# Altium integrated library Linear Technology Power Management LDO Linear Regulators.IntLib: 2339 symbols (part 99 of 131)
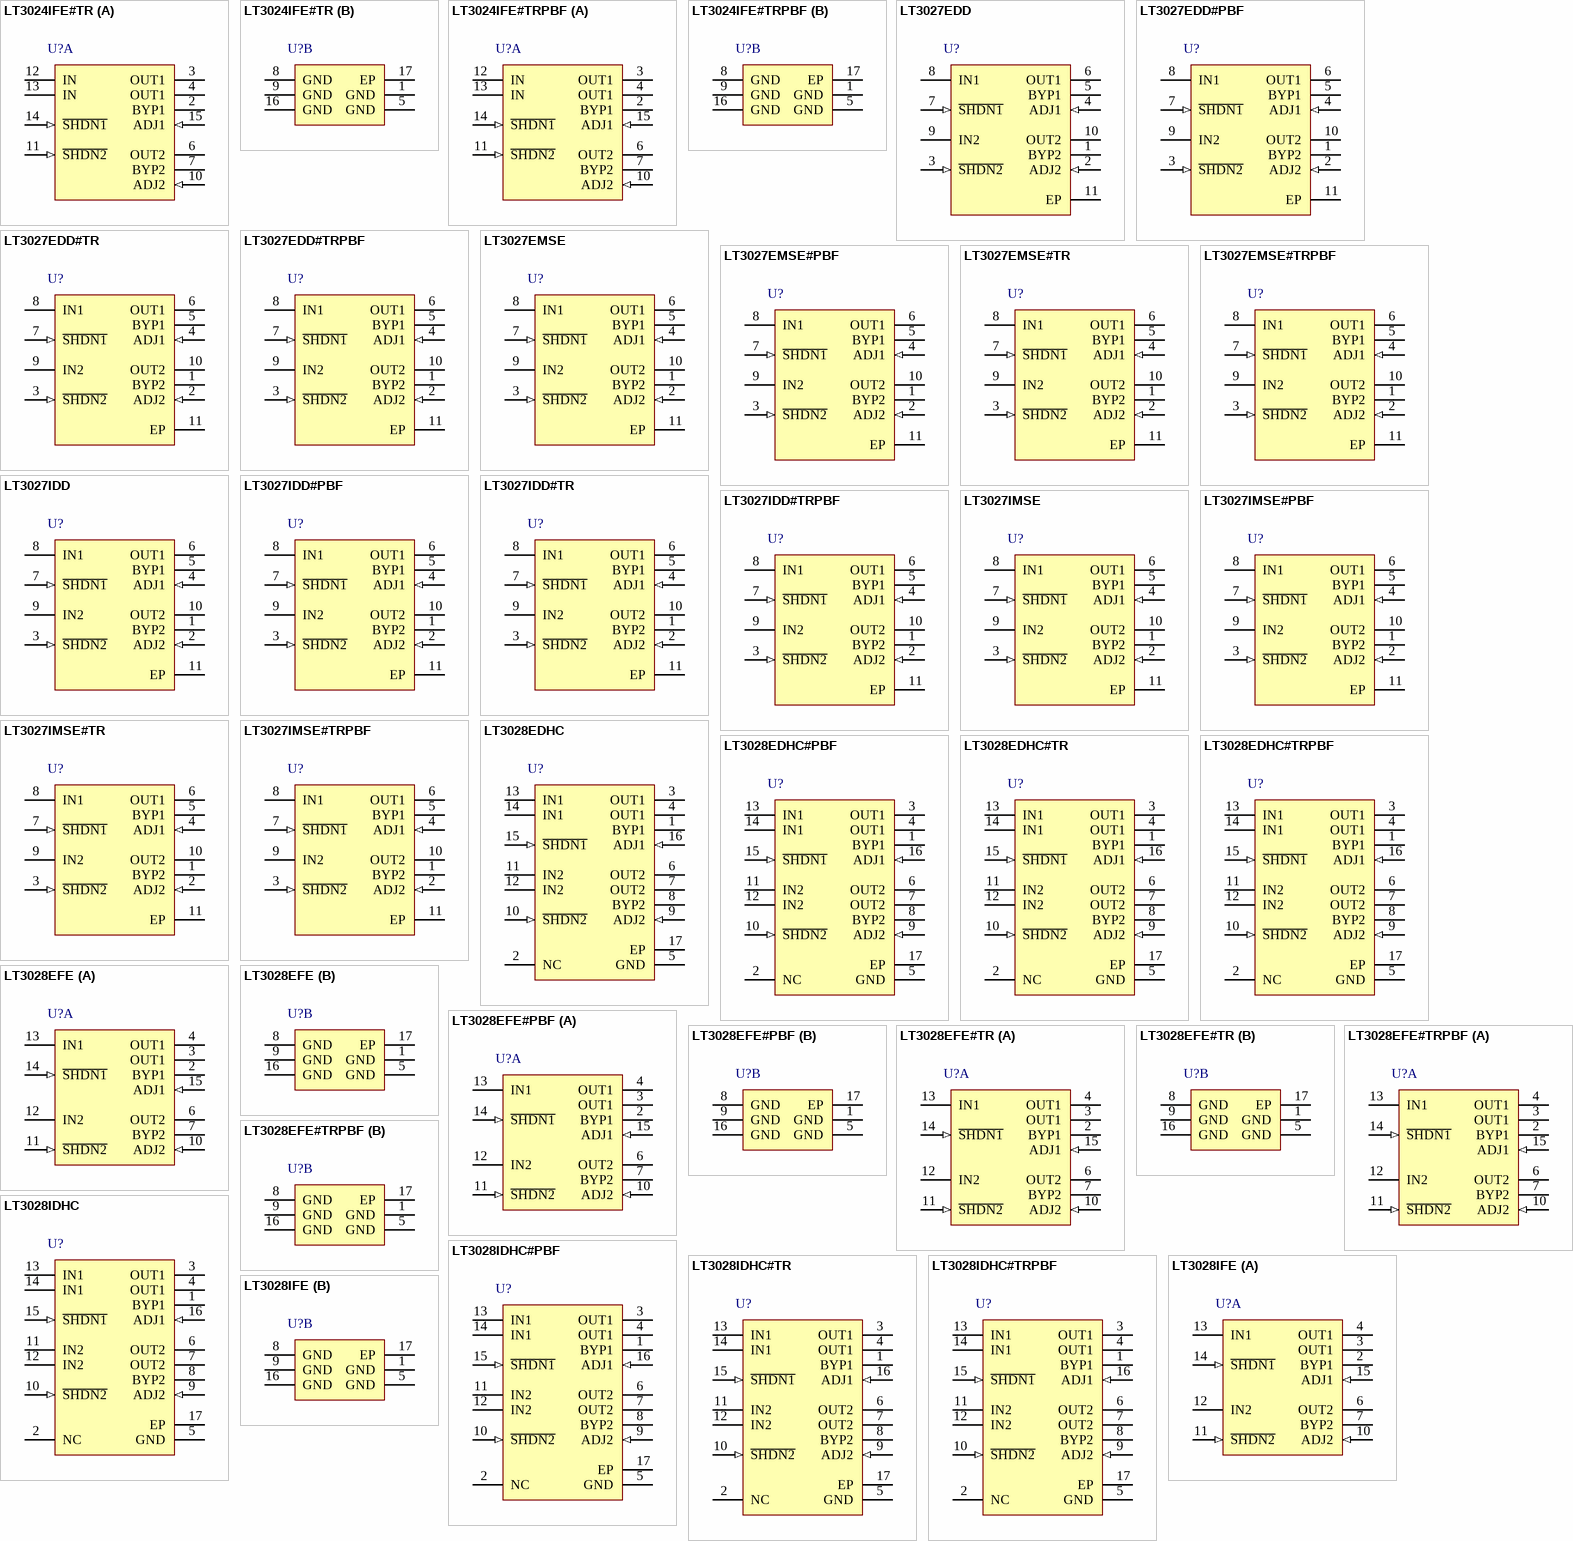
[diagram p167: symbols LT3024IFE#TR to LT3028IFE]

## LT3027IMSE#TRPBF
designator U?
Dual 100 mA, Low Dropout, Low Noise, Micropower Regulator with Independent Inputs, 1.8 to 20 V Vin, Adjustable Vout, 10-pin SOP (MSE-10-EDP), -40 to 125 degC, Pb-Free, Tape and Reel; Manufacturer: Linear Technology; PartNumber: LT3027IMSE#TRPBF; Discrete Pass Element: no; Dropout Voltage(V): 0.3; Iout(mA): 100; Isupply(mA): 0.025; Noise(uV): 20; Number of Outputs: 2; Output Voltage: Adj; PSRR(dB): 65; Shutdown Current(uA): 0.1; Vin Min(V): 1.8; Vout Min(V): 1.22; DatasheetVersion: Rev. A; PackageVersion: Rev. C, 08/2009; PackageReference: MSE-10; PackageDescription: 10-Pin Plastic MSOP, Exposed Die Pad, Body 3 x 3 mm, Pitch 0.5 mm; Supplier 1: Digi-Key; Supplier Part Number 1: LT3027IMSE#TRPBF-ND; Supplier 2: Newark; Supplier Part Number 2: 57M8040; Packing: Tape and Reel; RoHS: TRUE; Vin Max(V): 20; Vout Max(V): 20; Mounting Technology: Surface Mount; ComponentLink1Description: Manufacturer URL; ComponentLink1URL: http://www.linear.com/; ComponentLink2Description: Datasheet; ComponentLink2URL: http://cds.linear.com/docs/en/datasheet/3027fa.pdf; ComponentLink3Description: Package Specification; ComponentLink3URL: http://cds.linear.com/docs/en/datasheet/3481fc.pdf
footprint LT-MSE-10-EDP-2060x1830TP_N (SOP, 10-Leads, Body 3.1x3.1mm, Pitch 0.5mm, Thermal Pad 2.17x1.94mm, IPC Medium Density)
footprint LT-MSE-10-EDP-2060x1830TP_L (SOP, 10-Leads, Body 3.1x3.1mm, Pitch 0.5mm, Thermal Pad 2.17x1.94mm, IPC High Density)
footprint LT-MSE-10-EDP-2060x1830TP_M (SOP, 10-Leads, Body 3.1x3.1mm, Pitch 0.5mm, Thermal Pad 2.17x1.94mm, IPC Low Density)
pins: 1 BYP2 "Bypass. The BYP1/BYP2 pins are used to bypass the reference of the LT3027 regulator to achieve low noise performance from the regulator. The BYP1/BYP2 pins are clamped internally to +/-0.6V (one VBE) from ground. A small (See Datasheet)", 2 ADJ2 (in) "Adjust Pin. These are the inputs to the error amplifiers. These pins are internally clamped to +/-7V. They have a bias current of 30nA which flows into the pin (see curve of ADJ1/ADJ2 Pin Bias Current vs Temperature in the (See Datasheet)", 3 ~{SHDN2} (in) "Shutdown. The S\H\D\N\1\/S\H\D\N\2\ pins are used to put the corresponding channel of the LT3027 regulator into a low power shutdown state. The output will be off when the pin is pulled low. The S\H\D\N\1\/S\H\D\N\2\ pins (See Datasheet)", 4 ADJ1 (in) "Adjust Pin. These are the inputs to the error amplifiers. These pins are internally clamped to +/-7V. They have a bias current of 30nA which flows into the pin (see curve of ADJ1/ADJ2 Pin Bias Current vs Temperature in the (See Datasheet)", 5 BYP1 "Bypass. The BYP1/BYP2 pins are used to bypass the reference of the LT3027 regulator to achieve low noise performance from the regulator. The BYP1/BYP2 pins are clamped internally to +/-0.6V (one VBE) from ground. A small (See Datasheet)", 6 OUT1 (power) "Output. The outputs supply power to the loads. A minimum output capacitor of 1uF is required to prevent oscillations. Larger output capacitors will be required for applications with large transient loads to limit peak (See Datasheet)", 7 ~{SHDN1} (in) "Shutdown. The S\H\D\N\1\/S\H\D\N\2\ pins are used to put the corresponding channel of the LT3027 regulator into a low power shutdown state. The output will be off when the pin is pulled low. The S\H\D\N\1\/S\H\D\N\2\ pins (See Datasheet)", 8 IN1 (power) "Inputs. Power is supplied to the device through the IN pins. A bypass capacitor is required on this pin if the device is more than six inches away from the main input filter capacitor. In general, the output impedance of a (See Datasheet)", 9 IN2 (power) "Inputs. Power is supplied to the device through the IN pins. A bypass capacitor is required on this pin if the device is more than six inches away from the main input filter capacitor. In general, the output impedance of a (See Datasheet)", 10 OUT2 (power) "Output. The outputs supply power to the loads. A minimum output capacitor of 1uF is required to prevent oscillations. Larger output capacitors will be required for applications with large transient loads to limit peak (See Datasheet)", 11 EP (power) "Ground. This pin must be soldered to the PCB and electrically connected to ground."

## LT3028EDHC
designator U?
Dual 100 mA / 500 mA Low Dropout, Low Noise, Micropower Regulator with Independent Inputs, 1.8 to 20 V Vin, Adjustable Vout, 16-pin SON (DHC-16), -40 to 125 degC; Manufacturer: Linear Technology; PartNumber: LT3028EDHC; Discrete Pass Element: no; Dropout Voltage(V): 0.32; Iout(mA): 500; Isupply(mA): 0.03; Noise(uV): 20; Number of Outputs: 2; Output Voltage: Adj; PSRR(dB): 65; Shutdown Current(uA): 0.01; Vin Min(V): 1.8; Vout Min(V): 1.22; PackageVersion: Jun-10; PackageReference: DHC-16; PackageDescription: 16-Pin Plastic DFN, Body 5 x 3 mm, Pitch 0.5 mm; RoHS: FALSE; Vin Max(V): 20; Vout Max(V): 20; Mounting Technology: Surface Mount; Code_JEDEC: MO-229; ComponentLink1Description: Manufacturer URL; ComponentLink1URL: http://www.linear.com/; ComponentLink2Description: Datasheet; ComponentLink2URL: http://cds.linear.com/docs/en/datasheet/3028f.pdf; ComponentLink3Description: Package Specification; ComponentLink3URL: http://cds.linear.com/docs/en/packaging/DFN_16_05-08-1706.pdf
footprint LT-DHC-16_V (SON, 16-Leads, Body 5x3mm, Pitch 0.5mm, Thermal Pad 4.4X1.65mm)
pins: 1 BYP1, 2 NC, 3 OUT1 (power), 4 OUT1 (power), 5 GND (power), 6 OUT2 (power), 7 OUT2 (power), 8 BYP2, 9 ADJ2 (in), 10 ~{SHDN2} (in), 11 IN2 (power), 12 IN2 (power), 13 IN1 (power), 14 IN1 (power), 15 ~{SHDN1} (in), 16 ADJ1 (in), 17 EP (power)

## LT3028EDHC#PBF
designator U?
Dual 100 mA / 500 mA Low Dropout, Low Noise, Micropower Regulator with Independent Inputs, 1.8 to 20 V Vin, Adjustable Vout, 16-pin SON (DHC-16), -40 to 125 degC, Pb-Free; Manufacturer: Linear Technology; PartNumber: LT3028EDHC#PBF; Discrete Pass Element: no; Dropout Voltage(V): 0.32; Iout(mA): 500; Isupply(mA): 0.03; Noise(uV): 20; Number of Outputs: 2; Output Voltage: Adj; PSRR(dB): 65; Shutdown Current(uA): 0.01; Vin Min(V): 1.8; Vout Min(V): 1.22; PackageVersion: Jun-10; PackageReference: DHC-16; PackageDescription: 16-Pin Plastic DFN, Body 5 x 3 mm, Pitch 0.5 mm; Supplier 1: Digi-Key; Supplier Part Number 1: LT3028EDHC#PBF-ND; Supplier 2: Farnell; Supplier Part Number 2: 2295261; Supplier 3: Newark; Supplier Part Number 3: 57M8042; RoHS: TRUE; Vin Max(V): 20; Vout Max(V): 20; Mounting Technology: Surface Mount; Code_JEDEC: MO-229; ComponentLink1Description: Manufacturer URL; ComponentLink1URL: http://www.linear.com/; ComponentLink2Description: Datasheet; ComponentLink2URL: http://cds.linear.com/docs/en/datasheet/3028f.pdf; ComponentLink3Description: Package Specification; ComponentLink3URL: http://cds.linear.com/docs/en/packaging/DFN_16_05-08-1706.pdf
footprint LT-DHC-16_V (SON, 16-Leads, Body 5x3mm, Pitch 0.5mm, Thermal Pad 4.4X1.65mm)
pins: 1 BYP1, 2 NC, 3 OUT1 (power), 4 OUT1 (power), 5 GND (power), 6 OUT2 (power), 7 OUT2 (power), 8 BYP2, 9 ADJ2 (in), 10 ~{SHDN2} (in), 11 IN2 (power), 12 IN2 (power), 13 IN1 (power), 14 IN1 (power), 15 ~{SHDN1} (in), 16 ADJ1 (in), 17 EP (power)

## LT3028EDHC#TR
designator U?
Dual 100 mA / 500 mA Low Dropout, Low Noise, Micropower Regulator with Independent Inputs, 1.8 to 20 V Vin, Adjustable Vout, 16-pin SON (DHC-16), -40 to 125 degC, Tape and Reel; Manufacturer: Linear Technology; PartNumber: LT3028EDHC#TR; Discrete Pass Element: no; Dropout Voltage(V): 0.32; Iout(mA): 500; Isupply(mA): 0.03; Noise(uV): 20; Number of Outputs: 2; Output Voltage: Adj; PSRR(dB): 65; Shutdown Current(uA): 0.01; Vin Min(V): 1.8; Vout Min(V): 1.22; PackageVersion: Jun-10; PackageReference: DHC-16; PackageDescription: 16-Pin Plastic DFN, Body 5 x 3 mm, Pitch 0.5 mm; Packing: Tape and Reel; RoHS: FALSE; Vin Max(V): 20; Vout Max(V): 20; Mounting Technology: Surface Mount; Code_JEDEC: MO-229; ComponentLink1Description: Manufacturer URL; ComponentLink1URL: http://www.linear.com/; ComponentLink2Description: Datasheet; ComponentLink2URL: http://cds.linear.com/docs/en/datasheet/3028f.pdf; ComponentLink3Description: Package Specification; ComponentLink3URL: http://cds.linear.com/docs/en/packaging/DFN_16_05-08-1706.pdf
footprint LT-DHC-16_V (SON, 16-Leads, Body 5x3mm, Pitch 0.5mm, Thermal Pad 4.4X1.65mm)
pins: 1 BYP1, 2 NC, 3 OUT1 (power), 4 OUT1 (power), 5 GND (power), 6 OUT2 (power), 7 OUT2 (power), 8 BYP2, 9 ADJ2 (in), 10 ~{SHDN2} (in), 11 IN2 (power), 12 IN2 (power), 13 IN1 (power), 14 IN1 (power), 15 ~{SHDN1} (in), 16 ADJ1 (in), 17 EP (power)

## LT3028EDHC#TRPBF
designator U?
Dual 100 mA / 500 mA Low Dropout, Low Noise, Micropower Regulator with Independent Inputs, 1.8 to 20 V Vin, Adjustable Vout, 16-pin SON (DHC-16), -40 to 125 degC, Pb-Free, Tape and Reel; Manufacturer: Linear Technology; PartNumber: LT3028EDHC#TRPBF; Discrete Pass Element: no; Dropout Voltage(V): 0.32; Iout(mA): 500; Isupply(mA): 0.03; Noise(uV): 20; Number of Outputs: 2; Output Voltage: Adj; PSRR(dB): 65; Shutdown Current(uA): 0.01; Vin Min(V): 1.8; Vout Min(V): 1.22; PackageVersion: Jun-10; PackageReference: DHC-16; PackageDescription: 16-Pin Plastic DFN, Body 5 x 3 mm, Pitch 0.5 mm; Supplier 1: Digi-Key; Supplier Part Number 1: LT3028EDHC#TRPBF-ND; Packing: Tape and Reel; RoHS: TRUE; Vin Max(V): 20; Vout Max(V): 20; Mounting Technology: Surface Mount; Code_JEDEC: MO-229; ComponentLink1Description: Manufacturer URL; ComponentLink1URL: http://www.linear.com/; ComponentLink2Description: Datasheet; ComponentLink2URL: http://cds.linear.com/docs/en/datasheet/3028f.pdf; ComponentLink3Description: Package Specification; ComponentLink3URL: http://cds.linear.com/docs/en/packaging/DFN_16_05-08-1706.pdf
footprint LT-DHC-16_V (SON, 16-Leads, Body 5x3mm, Pitch 0.5mm, Thermal Pad 4.4X1.65mm)
pins: 1 BYP1, 2 NC, 3 OUT1 (power), 4 OUT1 (power), 5 GND (power), 6 OUT2 (power), 7 OUT2 (power), 8 BYP2, 9 ADJ2 (in), 10 ~{SHDN2} (in), 11 IN2 (power), 12 IN2 (power), 13 IN1 (power), 14 IN1 (power), 15 ~{SHDN1} (in), 16 ADJ1 (in), 17 EP (power)

## LT3028EFE
designator U?
Dual 100 mA / 500 mA Low Dropout, Low Noise, Micropower Regulator with Independent Inputs, 1.8 to 20 V Vin, Adjustable Vout, 16-pin SOP (FE-16-EPV-BB), -40 to 125 degC; Manufacturer: Linear Technology; PartNumber: LT3028EFE; Discrete Pass Element: no; Dropout Voltage(V): 0.32; Iout(mA): 500; Isupply(mA): 0.03; Noise(uV): 20; Number of Outputs: 2; Output Voltage: Adj; PSRR(dB): 65; Shutdown Current(uA): 0.01; Vin Min(V): 1.8; Vout Min(V): 1.22; PackageVersion: Rev. J, 11/2012; PackageReference: FE-16; PackageDescription: 16-Pin Plastic TSSOP, Body 5 x 4.4 mm, Pitch 0.65 mm; RoHS: FALSE; Vin Max(V): 20; Vout Max(V): 20; Mounting Technology: Surface Mount; ComponentLink1Description: Manufacturer URL; ComponentLink1URL: http://www.linear.com/; ComponentLink2Description: Datasheet; ComponentLink2URL: http://cds.linear.com/docs/en/datasheet/3028f.pdf; ComponentLink3Description: Package Specification; ComponentLink3URL: http://cds.linear.com/docs/en/packaging/05081663__J_FE16(BB).pdf
footprint LT-FE-16-EPV-BB_N (SOP, 16-Leads, Body 5.1x4.5mm, Pitch 0.65mm, Thermal Pad 3.58x2.94mm, IPC Medium Density)
footprint LT-FE-16-EPV-BB_L (SOP, 16-Leads, Body 5.1x4.5mm, Pitch 0.65mm, Thermal Pad 3.58x2.94mm, IPC High Density)
footprint LT-FE-16-EPV-BB_M (SOP, 16-Leads, Body 5.1x4.5mm, Pitch 0.65mm, Thermal Pad 3.58x2.94mm, IPC Low Density)
part A pins: 2 BYP1 "Bypass. The BYP1/BYP2 pins are used to bypass the reference of the LT3028 regulator to achieve low noise performance from the regulator. The BYP1/BYP2 pins are clamped internally to +/-0.6V (one VBE) from ground. A small (See Datasheet)", 3 OUT1 (power) "Output. The outputs supply power to the loads. A minimum output capacitor of 1uF is required to prevent oscillations on Output 2; Output 1 requires a minimum of 3.3uF. Larger output capacitors will be required for (See Datasheet)", 4 OUT1 (power) "Output. The outputs supply power to the loads. A minimum output capacitor of 1uF is required to prevent oscillations on Output 2; Output 1 requires a minimum of 3.3uF. Larger output capacitors will be required for (See Datasheet)", 6 OUT2 (power) "Output. The outputs supply power to the loads. A minimum output capacitor of 1uF is required to prevent oscillations on Output 2; Output 1 requires a minimum of 3.3uF. Larger output capacitors will be required for (See Datasheet)", 7 BYP2 "Bypass. The BYP1/BYP2 pins are used to bypass the reference of the LT3028 regulator to achieve low noise performance from the regulator. The BYP1/BYP2 pins are clamped internally to +/-0.6V (one VBE) from ground. A small (See Datasheet)", 10 ADJ2 (in) "Adjust Pin. These are the inputs to the error amplifiers. These pins are internally clamped to +/-7V. They have a bias current of 30nA which flows into the pin (see curve of ADJ1/ADJ2 Pin Bias Current vs Temperature in the (See Datasheet)", 11 ~{SHDN2} (in) "Shutdown. The S\H\D\N\1\/S\H\D\N\2\ pins are used to put the corresponding output of the LT3028 regulator into a low power shutdown state. The output will be off when the pin is pulled low. The S\H\D\N\1\/S\H\D\N\2\ pins can (See Datasheet)", 12 IN2 (power) "Inputs. Power is supplied to the device through the IN pins. A bypass capacitor is required on these pins if the device is more than six inches away from the main input filter capacitor. In general, the output impedance of a (See Datasheet)", 13 IN1 (power) "Inputs. Power is supplied to the device through the IN pins. A bypass capacitor is required on these pins if the device is more than six inches away from the main input filter capacitor. In general, the output impedance of a (See Datasheet)", 14 ~{SHDN1} (in) "Shutdown. The S\H\D\N\1\/S\H\D\N\2\ pins are used to put the corresponding output of the LT3028 regulator into a low power shutdown state. The output will be off when the pin is pulled low. The S\H\D\N\1\/S\H\D\N\2\ pins can (See Datasheet)", 15 ADJ1 (in) "Adjust Pin. These are the inputs to the error amplifiers. These pins are internally clamped to +/-7V. They have a bias current of 30nA which flows into the pin (see curve of ADJ1/ADJ2 Pin Bias Current vs Temperature in the (See Datasheet)"
part B pins: 1 GND (power) "Ground.", 5 GND (power) "Ground.", 8 GND (power) "Ground.", 9 GND (power) "Ground.", 16 GND (power) "Ground.", 17 EP (power) "Ground. The Exposed Pad must be soldered to PCB ground for optimum thermal performance."

## LT3028EFE#PBF
designator U?
Dual 100 mA / 500 mA Low Dropout, Low Noise, Micropower Regulator with Independent Inputs, 1.8 to 20 V Vin, Adjustable Vout, 16-pin SOP (FE-16-EPV-BB), -40 to 125 degC, Pb-Free; Manufacturer: Linear Technology; PartNumber: LT3028EFE#PBF; Discrete Pass Element: no; Dropout Voltage(V): 0.32; Iout(mA): 500; Isupply(mA): 0.03; Noise(uV): 20; Number of Outputs: 2; Output Voltage: Adj; PSRR(dB): 65; Shutdown Current(uA): 0.01; Vin Min(V): 1.8; Vout Min(V): 1.22; PackageVersion: Rev. J, 11/2012; PackageReference: FE-16; PackageDescription: 16-Pin Plastic TSSOP, Body 5 x 4.4 mm, Pitch 0.65 mm; Supplier 1: Digi-Key; Supplier Part Number 1: LT3028EFE#PBF-ND; Supplier 2: Farnell; Supplier Part Number 2: 1273641; Supplier 3: Newark; Supplier Part Number 3: 57M8046; RoHS: TRUE; Vin Max(V): 20; Vout Max(V): 20; Mounting Technology: Surface Mount; ComponentLink1Description: Manufacturer URL; ComponentLink1URL: http://www.linear.com/; ComponentLink2Description: Datasheet; ComponentLink2URL: http://cds.linear.com/docs/en/datasheet/3028f.pdf; ComponentLink3Description: Package Specification; ComponentLink3URL: http://cds.linear.com/docs/en/packaging/05081663__J_FE16(BB).pdf
footprint LT-FE-16-EPV-BB_N (SOP, 16-Leads, Body 5.1x4.5mm, Pitch 0.65mm, Thermal Pad 3.58x2.94mm, IPC Medium Density)
footprint LT-FE-16-EPV-BB_L (SOP, 16-Leads, Body 5.1x4.5mm, Pitch 0.65mm, Thermal Pad 3.58x2.94mm, IPC High Density)
footprint LT-FE-16-EPV-BB_M (SOP, 16-Leads, Body 5.1x4.5mm, Pitch 0.65mm, Thermal Pad 3.58x2.94mm, IPC Low Density)
part A pins: 2 BYP1 "Bypass. The BYP1/BYP2 pins are used to bypass the reference of the LT3028 regulator to achieve low noise performance from the regulator. The BYP1/BYP2 pins are clamped internally to +/-0.6V (one VBE) from ground. A small (See Datasheet)", 3 OUT1 (power) "Output. The outputs supply power to the loads. A minimum output capacitor of 1uF is required to prevent oscillations on Output 2; Output 1 requires a minimum of 3.3uF. Larger output capacitors will be required for (See Datasheet)", 4 OUT1 (power) "Output. The outputs supply power to the loads. A minimum output capacitor of 1uF is required to prevent oscillations on Output 2; Output 1 requires a minimum of 3.3uF. Larger output capacitors will be required for (See Datasheet)", 6 OUT2 (power) "Output. The outputs supply power to the loads. A minimum output capacitor of 1uF is required to prevent oscillations on Output 2; Output 1 requires a minimum of 3.3uF. Larger output capacitors will be required for (See Datasheet)", 7 BYP2 "Bypass. The BYP1/BYP2 pins are used to bypass the reference of the LT3028 regulator to achieve low noise performance from the regulator. The BYP1/BYP2 pins are clamped internally to +/-0.6V (one VBE) from ground. A small (See Datasheet)", 10 ADJ2 (in) "Adjust Pin. These are the inputs to the error amplifiers. These pins are internally clamped to +/-7V. They have a bias current of 30nA which flows into the pin (see curve of ADJ1/ADJ2 Pin Bias Current vs Temperature in the (See Datasheet)", 11 ~{SHDN2} (in) "Shutdown. The S\H\D\N\1\/S\H\D\N\2\ pins are used to put the corresponding output of the LT3028 regulator into a low power shutdown state. The output will be off when the pin is pulled low. The S\H\D\N\1\/S\H\D\N\2\ pins can (See Datasheet)", 12 IN2 (power) "Inputs. Power is supplied to the device through the IN pins. A bypass capacitor is required on these pins if the device is more than six inches away from the main input filter capacitor. In general, the output impedance of a (See Datasheet)", 13 IN1 (power) "Inputs. Power is supplied to the device through the IN pins. A bypass capacitor is required on these pins if the device is more than six inches away from the main input filter capacitor. In general, the output impedance of a (See Datasheet)", 14 ~{SHDN1} (in) "Shutdown. The S\H\D\N\1\/S\H\D\N\2\ pins are used to put the corresponding output of the LT3028 regulator into a low power shutdown state. The output will be off when the pin is pulled low. The S\H\D\N\1\/S\H\D\N\2\ pins can (See Datasheet)", 15 ADJ1 (in) "Adjust Pin. These are the inputs to the error amplifiers. These pins are internally clamped to +/-7V. They have a bias current of 30nA which flows into the pin (see curve of ADJ1/ADJ2 Pin Bias Current vs Temperature in the (See Datasheet)"
part B pins: 1 GND (power) "Ground.", 5 GND (power) "Ground.", 8 GND (power) "Ground.", 9 GND (power) "Ground.", 16 GND (power) "Ground.", 17 EP (power) "Ground. The Exposed Pad must be soldered to PCB ground for optimum thermal performance."

## LT3028EFE#TR
designator U?
Dual 100 mA / 500 mA Low Dropout, Low Noise, Micropower Regulator with Independent Inputs, 1.8 to 20 V Vin, Adjustable Vout, 16-pin SOP (FE-16-EPV-BB), -40 to 125 degC, Tape and Reel; Manufacturer: Linear Technology; PartNumber: LT3028EFE#TR; Discrete Pass Element: no; Dropout Voltage(V): 0.32; Iout(mA): 500; Isupply(mA): 0.03; Noise(uV): 20; Number of Outputs: 2; Output Voltage: Adj; PSRR(dB): 65; Shutdown Current(uA): 0.01; Vin Min(V): 1.8; Vout Min(V): 1.22; PackageVersion: Rev. J, 11/2012; PackageReference: FE-16; PackageDescription: 16-Pin Plastic TSSOP, Body 5 x 4.4 mm, Pitch 0.65 mm; Packing: Tape and Reel; RoHS: FALSE; Vin Max(V): 20; Vout Max(V): 20; Mounting Technology: Surface Mount; ComponentLink1Description: Manufacturer URL; ComponentLink1URL: http://www.linear.com/; ComponentLink2Description: Datasheet; ComponentLink2URL: http://cds.linear.com/docs/en/datasheet/3028f.pdf; ComponentLink3Description: Package Specification; ComponentLink3URL: http://cds.linear.com/docs/en/packaging/05081663__J_FE16(BB).pdf
footprint LT-FE-16-EPV-BB_N (SOP, 16-Leads, Body 5.1x4.5mm, Pitch 0.65mm, Thermal Pad 3.58x2.94mm, IPC Medium Density)
footprint LT-FE-16-EPV-BB_L (SOP, 16-Leads, Body 5.1x4.5mm, Pitch 0.65mm, Thermal Pad 3.58x2.94mm, IPC High Density)
footprint LT-FE-16-EPV-BB_M (SOP, 16-Leads, Body 5.1x4.5mm, Pitch 0.65mm, Thermal Pad 3.58x2.94mm, IPC Low Density)
part A pins: 2 BYP1 "Bypass. The BYP1/BYP2 pins are used to bypass the reference of the LT3028 regulator to achieve low noise performance from the regulator. The BYP1/BYP2 pins are clamped internally to +/-0.6V (one VBE) from ground. A small (See Datasheet)", 3 OUT1 (power) "Output. The outputs supply power to the loads. A minimum output capacitor of 1uF is required to prevent oscillations on Output 2; Output 1 requires a minimum of 3.3uF. Larger output capacitors will be required for (See Datasheet)", 4 OUT1 (power) "Output. The outputs supply power to the loads. A minimum output capacitor of 1uF is required to prevent oscillations on Output 2; Output 1 requires a minimum of 3.3uF. Larger output capacitors will be required for (See Datasheet)", 6 OUT2 (power) "Output. The outputs supply power to the loads. A minimum output capacitor of 1uF is required to prevent oscillations on Output 2; Output 1 requires a minimum of 3.3uF. Larger output capacitors will be required for (See Datasheet)", 7 BYP2 "Bypass. The BYP1/BYP2 pins are used to bypass the reference of the LT3028 regulator to achieve low noise performance from the regulator. The BYP1/BYP2 pins are clamped internally to +/-0.6V (one VBE) from ground. A small (See Datasheet)", 10 ADJ2 (in) "Adjust Pin. These are the inputs to the error amplifiers. These pins are internally clamped to +/-7V. They have a bias current of 30nA which flows into the pin (see curve of ADJ1/ADJ2 Pin Bias Current vs Temperature in the (See Datasheet)", 11 ~{SHDN2} (in) "Shutdown. The S\H\D\N\1\/S\H\D\N\2\ pins are used to put the corresponding output of the LT3028 regulator into a low power shutdown state. The output will be off when the pin is pulled low. The S\H\D\N\1\/S\H\D\N\2\ pins can (See Datasheet)", 12 IN2 (power) "Inputs. Power is supplied to the device through the IN pins. A bypass capacitor is required on these pins if the device is more than six inches away from the main input filter capacitor. In general, the output impedance of a (See Datasheet)", 13 IN1 (power) "Inputs. Power is supplied to the device through the IN pins. A bypass capacitor is required on these pins if the device is more than six inches away from the main input filter capacitor. In general, the output impedance of a (See Datasheet)", 14 ~{SHDN1} (in) "Shutdown. The S\H\D\N\1\/S\H\D\N\2\ pins are used to put the corresponding output of the LT3028 regulator into a low power shutdown state. The output will be off when the pin is pulled low. The S\H\D\N\1\/S\H\D\N\2\ pins can (See Datasheet)", 15 ADJ1 (in) "Adjust Pin. These are the inputs to the error amplifiers. These pins are internally clamped to +/-7V. They have a bias current of 30nA which flows into the pin (see curve of ADJ1/ADJ2 Pin Bias Current vs Temperature in the (See Datasheet)"
part B pins: 1 GND (power) "Ground.", 5 GND (power) "Ground.", 8 GND (power) "Ground.", 9 GND (power) "Ground.", 16 GND (power) "Ground.", 17 EP (power) "Ground. The Exposed Pad must be soldered to PCB ground for optimum thermal performance."

## LT3028EFE#TRPBF
designator U?
Dual 100 mA / 500 mA Low Dropout, Low Noise, Micropower Regulator with Independent Inputs, 1.8 to 20 V Vin, Adjustable Vout, 16-pin SOP (FE-16-EPV-BB), -40 to 125 degC, Pb-Free, Tape and Reel; Manufacturer: Linear Technology; PartNumber: LT3028EFE#TRPBF; Discrete Pass Element: no; Dropout Voltage(V): 0.32; Iout(mA): 500; Isupply(mA): 0.03; Noise(uV): 20; Number of Outputs: 2; Output Voltage: Adj; PSRR(dB): 65; Shutdown Current(uA): 0.01; Vin Min(V): 1.8; Vout Min(V): 1.22; PackageVersion: Rev. J, 11/2012; PackageReference: FE-16; PackageDescription: 16-Pin Plastic TSSOP, Body 5 x 4.4 mm, Pitch 0.65 mm; Supplier 1: Digi-Key; Supplier Part Number 1: LT3028EFE#TRPBF-ND; Packing: Tape and Reel; RoHS: TRUE; Vin Max(V): 20; Vout Max(V): 20; Mounting Technology: Surface Mount; ComponentLink1Description: Manufacturer URL; ComponentLink1URL: http://www.linear.com/; ComponentLink2Description: Datasheet; ComponentLink2URL: http://cds.linear.com/docs/en/datasheet/3028f.pdf; ComponentLink3Description: Package Specification; ComponentLink3URL: http://cds.linear.com/docs/en/packaging/05081663__J_FE16(BB).pdf
footprint LT-FE-16-EPV-BB_N (SOP, 16-Leads, Body 5.1x4.5mm, Pitch 0.65mm, Thermal Pad 3.58x2.94mm, IPC Medium Density)
footprint LT-FE-16-EPV-BB_L (SOP, 16-Leads, Body 5.1x4.5mm, Pitch 0.65mm, Thermal Pad 3.58x2.94mm, IPC High Density)
footprint LT-FE-16-EPV-BB_M (SOP, 16-Leads, Body 5.1x4.5mm, Pitch 0.65mm, Thermal Pad 3.58x2.94mm, IPC Low Density)
part A pins: 2 BYP1 "Bypass. The BYP1/BYP2 pins are used to bypass the reference of the LT3028 regulator to achieve low noise performance from the regulator. The BYP1/BYP2 pins are clamped internally to +/-0.6V (one VBE) from ground. A small (See Datasheet)", 3 OUT1 (power) "Output. The outputs supply power to the loads. A minimum output capacitor of 1uF is required to prevent oscillations on Output 2; Output 1 requires a minimum of 3.3uF. Larger output capacitors will be required for (See Datasheet)", 4 OUT1 (power) "Output. The outputs supply power to the loads. A minimum output capacitor of 1uF is required to prevent oscillations on Output 2; Output 1 requires a minimum of 3.3uF. Larger output capacitors will be required for (See Datasheet)", 6 OUT2 (power) "Output. The outputs supply power to the loads. A minimum output capacitor of 1uF is required to prevent oscillations on Output 2; Output 1 requires a minimum of 3.3uF. Larger output capacitors will be required for (See Datasheet)", 7 BYP2 "Bypass. The BYP1/BYP2 pins are used to bypass the reference of the LT3028 regulator to achieve low noise performance from the regulator. The BYP1/BYP2 pins are clamped internally to +/-0.6V (one VBE) from ground. A small (See Datasheet)", 10 ADJ2 (in) "Adjust Pin. These are the inputs to the error amplifiers. These pins are internally clamped to +/-7V. They have a bias current of 30nA which flows into the pin (see curve of ADJ1/ADJ2 Pin Bias Current vs Temperature in the (See Datasheet)", 11 ~{SHDN2} (in) "Shutdown. The S\H\D\N\1\/S\H\D\N\2\ pins are used to put the corresponding output of the LT3028 regulator into a low power shutdown state. The output will be off when the pin is pulled low. The S\H\D\N\1\/S\H\D\N\2\ pins can (See Datasheet)", 12 IN2 (power) "Inputs. Power is supplied to the device through the IN pins. A bypass capacitor is required on these pins if the device is more than six inches away from the main input filter capacitor. In general, the output impedance of a (See Datasheet)", 13 IN1 (power) "Inputs. Power is supplied to the device through the IN pins. A bypass capacitor is required on these pins if the device is more than six inches away from the main input filter capacitor. In general, the output impedance of a (See Datasheet)", 14 ~{SHDN1} (in) "Shutdown. The S\H\D\N\1\/S\H\D\N\2\ pins are used to put the corresponding output of the LT3028 regulator into a low power shutdown state. The output will be off when the pin is pulled low. The S\H\D\N\1\/S\H\D\N\2\ pins can (See Datasheet)", 15 ADJ1 (in) "Adjust Pin. These are the inputs to the error amplifiers. These pins are internally clamped to +/-7V. They have a bias current of 30nA which flows into the pin (see curve of ADJ1/ADJ2 Pin Bias Current vs Temperature in the (See Datasheet)"
part B pins: 1 GND (power) "Ground.", 5 GND (power) "Ground.", 8 GND (power) "Ground.", 9 GND (power) "Ground.", 16 GND (power) "Ground.", 17 EP (power) "Ground. The Exposed Pad must be soldered to PCB ground for optimum thermal performance."

## LT3028IDHC
designator U?
Dual 100 mA / 500 mA Low Dropout, Low Noise, Micropower Regulator with Independent Inputs, 1.8 to 20 V Vin, Adjustable Vout, 16-pin SON (DHC-16), -40 to 125 degC; Manufacturer: Linear Technology; PartNumber: LT3028IDHC; Discrete Pass Element: no; Dropout Voltage(V): 0.32; Iout(mA): 500; Isupply(mA): 0.03; Noise(uV): 20; Number of Outputs: 2; Output Voltage: Adj; PSRR(dB): 65; Shutdown Current(uA): 0.01; Vin Min(V): 1.8; Vout Min(V): 1.22; PackageVersion: Jun-10; PackageReference: DHC-16; PackageDescription: 16-Pin Plastic DFN, Body 5 x 3 mm, Pitch 0.5 mm; RoHS: FALSE; Vin Max(V): 20; Vout Max(V): 20; Mounting Technology: Surface Mount; Code_JEDEC: MO-229; ComponentLink1Description: Manufacturer URL; ComponentLink1URL: http://www.linear.com/; ComponentLink2Description: Datasheet; ComponentLink2URL: http://cds.linear.com/docs/en/datasheet/3028f.pdf; ComponentLink3Description: Package Specification; ComponentLink3URL: http://cds.linear.com/docs/en/packaging/DFN_16_05-08-1706.pdf
footprint LT-DHC-16_V (SON, 16-Leads, Body 5x3mm, Pitch 0.5mm, Thermal Pad 4.4X1.65mm)
pins: 1 BYP1, 2 NC, 3 OUT1 (power), 4 OUT1 (power), 5 GND (power), 6 OUT2 (power), 7 OUT2 (power), 8 BYP2, 9 ADJ2 (in), 10 ~{SHDN2} (in), 11 IN2 (power), 12 IN2 (power), 13 IN1 (power), 14 IN1 (power), 15 ~{SHDN1} (in), 16 ADJ1 (in), 17 EP (power)

## LT3028IDHC#PBF
designator U?
Dual 100 mA / 500 mA Low Dropout, Low Noise, Micropower Regulator with Independent Inputs, 1.8 to 20 V Vin, Adjustable Vout, 16-pin SON (DHC-16), -40 to 125 degC, Pb-Free; Manufacturer: Linear Technology; PartNumber: LT3028IDHC#PBF; Discrete Pass Element: no; Dropout Voltage(V): 0.32; Iout(mA): 500; Isupply(mA): 0.03; Noise(uV): 20; Number of Outputs: 2; Output Voltage: Adj; PSRR(dB): 65; Shutdown Current(uA): 0.01; Vin Min(V): 1.8; Vout Min(V): 1.22; PackageVersion: Jun-10; PackageReference: DHC-16; PackageDescription: 16-Pin Plastic DFN, Body 5 x 3 mm, Pitch 0.5 mm; Supplier 1: Digi-Key; Supplier Part Number 1: LT3028IDHC#PBF-ND; Supplier 2: Newark; Supplier Part Number 2: 57M8050; RoHS: TRUE; Vin Max(V): 20; Vout Max(V): 20; Mounting Technology: Surface Mount; Code_JEDEC: MO-229; ComponentLink1Description: Manufacturer URL; ComponentLink1URL: http://www.linear.com/; ComponentLink2Description: Datasheet; ComponentLink2URL: http://cds.linear.com/docs/en/datasheet/3028f.pdf; ComponentLink3Description: Package Specification; ComponentLink3URL: http://cds.linear.com/docs/en/packaging/DFN_16_05-08-1706.pdf
footprint LT-DHC-16_V (SON, 16-Leads, Body 5x3mm, Pitch 0.5mm, Thermal Pad 4.4X1.65mm)
pins: 1 BYP1, 2 NC, 3 OUT1 (power), 4 OUT1 (power), 5 GND (power), 6 OUT2 (power), 7 OUT2 (power), 8 BYP2, 9 ADJ2 (in), 10 ~{SHDN2} (in), 11 IN2 (power), 12 IN2 (power), 13 IN1 (power), 14 IN1 (power), 15 ~{SHDN1} (in), 16 ADJ1 (in), 17 EP (power)

## LT3028IDHC#TR
designator U?
Dual 100 mA / 500 mA Low Dropout, Low Noise, Micropower Regulator with Independent Inputs, 1.8 to 20 V Vin, Adjustable Vout, 16-pin SON (DHC-16), -40 to 125 degC, Tape and Reel; Manufacturer: Linear Technology; PartNumber: LT3028IDHC#TR; Discrete Pass Element: no; Dropout Voltage(V): 0.32; Iout(mA): 500; Isupply(mA): 0.03; Noise(uV): 20; Number of Outputs: 2; Output Voltage: Adj; PSRR(dB): 65; Shutdown Current(uA): 0.01; Vin Min(V): 1.8; Vout Min(V): 1.22; PackageVersion: Jun-10; PackageReference: DHC-16; PackageDescription: 16-Pin Plastic DFN, Body 5 x 3 mm, Pitch 0.5 mm; Packing: Tape and Reel; RoHS: FALSE; Vin Max(V): 20; Vout Max(V): 20; Mounting Technology: Surface Mount; Code_JEDEC: MO-229; ComponentLink1Description: Manufacturer URL; ComponentLink1URL: http://www.linear.com/; ComponentLink2Description: Datasheet; ComponentLink2URL: http://cds.linear.com/docs/en/datasheet/3028f.pdf; ComponentLink3Description: Package Specification; ComponentLink3URL: http://cds.linear.com/docs/en/packaging/DFN_16_05-08-1706.pdf
footprint LT-DHC-16_V (SON, 16-Leads, Body 5x3mm, Pitch 0.5mm, Thermal Pad 4.4X1.65mm)
pins: 1 BYP1, 2 NC, 3 OUT1 (power), 4 OUT1 (power), 5 GND (power), 6 OUT2 (power), 7 OUT2 (power), 8 BYP2, 9 ADJ2 (in), 10 ~{SHDN2} (in), 11 IN2 (power), 12 IN2 (power), 13 IN1 (power), 14 IN1 (power), 15 ~{SHDN1} (in), 16 ADJ1 (in), 17 EP (power)

## LT3028IDHC#TRPBF
designator U?
Dual 100 mA / 500 mA Low Dropout, Low Noise, Micropower Regulator with Independent Inputs, 1.8 to 20 V Vin, Adjustable Vout, 16-pin SON (DHC-16), -40 to 125 degC, Pb-Free, Tape and Reel; Manufacturer: Linear Technology; PartNumber: LT3028IDHC#TRPBF; Discrete Pass Element: no; Dropout Voltage(V): 0.32; Iout(mA): 500; Isupply(mA): 0.03; Noise(uV): 20; Number of Outputs: 2; Output Voltage: Adj; PSRR(dB): 65; Shutdown Current(uA): 0.01; Vin Min(V): 1.8; Vout Min(V): 1.22; PackageVersion: Jun-10; PackageReference: DHC-16; PackageDescription: 16-Pin Plastic DFN, Body 5 x 3 mm, Pitch 0.5 mm; Supplier 1: Digi-Key; Supplier Part Number 1: LT3028IDHC#TRPBF-ND; Packing: Tape and Reel; RoHS: TRUE; Vin Max(V): 20; Vout Max(V): 20; Mounting Technology: Surface Mount; Code_JEDEC: MO-229; ComponentLink1Description: Manufacturer URL; ComponentLink1URL: http://www.linear.com/; ComponentLink2Description: Datasheet; ComponentLink2URL: http://cds.linear.com/docs/en/datasheet/3028f.pdf; ComponentLink3Description: Package Specification; ComponentLink3URL: http://cds.linear.com/docs/en/packaging/DFN_16_05-08-1706.pdf
footprint LT-DHC-16_V (SON, 16-Leads, Body 5x3mm, Pitch 0.5mm, Thermal Pad 4.4X1.65mm)
pins: 1 BYP1, 2 NC, 3 OUT1 (power), 4 OUT1 (power), 5 GND (power), 6 OUT2 (power), 7 OUT2 (power), 8 BYP2, 9 ADJ2 (in), 10 ~{SHDN2} (in), 11 IN2 (power), 12 IN2 (power), 13 IN1 (power), 14 IN1 (power), 15 ~{SHDN1} (in), 16 ADJ1 (in), 17 EP (power)

## LT3028IFE
designator U?
Dual 100 mA / 500 mA Low Dropout, Low Noise, Micropower Regulator with Independent Inputs, 1.8 to 20 V Vin, Adjustable Vout, 16-pin SOP (FE-16-EPV-BB), -40 to 125 degC; Manufacturer: Linear Technology; PartNumber: LT3028IFE; Discrete Pass Element: no; Dropout Voltage(V): 0.32; Iout(mA): 500; Isupply(mA): 0.03; Noise(uV): 20; Number of Outputs: 2; Output Voltage: Adj; PSRR(dB): 65; Shutdown Current(uA): 0.01; Vin Min(V): 1.8; Vout Min(V): 1.22; PackageVersion: Rev. J, 11/2012; PackageReference: FE-16; PackageDescription: 16-Pin Plastic TSSOP, Body 5 x 4.4 mm, Pitch 0.65 mm; RoHS: FALSE; Vin Max(V): 20; Vout Max(V): 20; Mounting Technology: Surface Mount; ComponentLink1Description: Manufacturer URL; ComponentLink1URL: http://www.linear.com/; ComponentLink2Description: Datasheet; ComponentLink2URL: http://cds.linear.com/docs/en/datasheet/3028f.pdf; ComponentLink3Description: Package Specification; ComponentLink3URL: http://cds.linear.com/docs/en/packaging/05081663__J_FE16(BB).pdf
footprint LT-FE-16-EPV-BB_N (SOP, 16-Leads, Body 5.1x4.5mm, Pitch 0.65mm, Thermal Pad 3.58x2.94mm, IPC Medium Density)
footprint LT-FE-16-EPV-BB_L (SOP, 16-Leads, Body 5.1x4.5mm, Pitch 0.65mm, Thermal Pad 3.58x2.94mm, IPC High Density)
footprint LT-FE-16-EPV-BB_M (SOP, 16-Leads, Body 5.1x4.5mm, Pitch 0.65mm, Thermal Pad 3.58x2.94mm, IPC Low Density)
part A pins: 2 BYP1 "Bypass. The BYP1/BYP2 pins are used to bypass the reference of the LT3028 regulator to achieve low noise performance from the regulator. The BYP1/BYP2 pins are clamped internally to +/-0.6V (one VBE) from ground. A small (See Datasheet)", 3 OUT1 (power) "Output. The outputs supply power to the loads. A minimum output capacitor of 1uF is required to prevent oscillations on Output 2; Output 1 requires a minimum of 3.3uF. Larger output capacitors will be required for (See Datasheet)", 4 OUT1 (power) "Output. The outputs supply power to the loads. A minimum output capacitor of 1uF is required to prevent oscillations on Output 2; Output 1 requires a minimum of 3.3uF. Larger output capacitors will be required for (See Datasheet)", 6 OUT2 (power) "Output. The outputs supply power to the loads. A minimum output capacitor of 1uF is required to prevent oscillations on Output 2; Output 1 requires a minimum of 3.3uF. Larger output capacitors will be required for (See Datasheet)", 7 BYP2 "Bypass. The BYP1/BYP2 pins are used to bypass the reference of the LT3028 regulator to achieve low noise performance from the regulator. The BYP1/BYP2 pins are clamped internally to +/-0.6V (one VBE) from ground. A small (See Datasheet)", 10 ADJ2 (in) "Adjust Pin. These are the inputs to the error amplifiers. These pins are internally clamped to +/-7V. They have a bias current of 30nA which flows into the pin (see curve of ADJ1/ADJ2 Pin Bias Current vs Temperature in the (See Datasheet)", 11 ~{SHDN2} (in) "Shutdown. The S\H\D\N\1\/S\H\D\N\2\ pins are used to put the corresponding output of the LT3028 regulator into a low power shutdown state. The output will be off when the pin is pulled low. The S\H\D\N\1\/S\H\D\N\2\ pins can (See Datasheet)", 12 IN2 (power) "Inputs. Power is supplied to the device through the IN pins. A bypass capacitor is required on these pins if the device is more than six inches away from the main input filter capacitor. In general, the output impedance of a (See Datasheet)", 13 IN1 (power) "Inputs. Power is supplied to the device through the IN pins. A bypass capacitor is required on these pins if the device is more than six inches away from the main input filter capacitor. In general, the output impedance of a (See Datasheet)", 14 ~{SHDN1} (in) "Shutdown. The S\H\D\N\1\/S\H\D\N\2\ pins are used to put the corresponding output of the LT3028 regulator into a low power shutdown state. The output will be off when the pin is pulled low. The S\H\D\N\1\/S\H\D\N\2\ pins can (See Datasheet)", 15 ADJ1 (in) "Adjust Pin. These are the inputs to the error amplifiers. These pins are internally clamped to +/-7V. They have a bias current of 30nA which flows into the pin (see curve of ADJ1/ADJ2 Pin Bias Current vs Temperature in the (See Datasheet)"
part B pins: 1 GND (power) "Ground.", 5 GND (power) "Ground.", 8 GND (power) "Ground.", 9 GND (power) "Ground.", 16 GND (power) "Ground.", 17 EP (power) "Ground. The Exposed Pad must be soldered to PCB ground for optimum thermal performance."

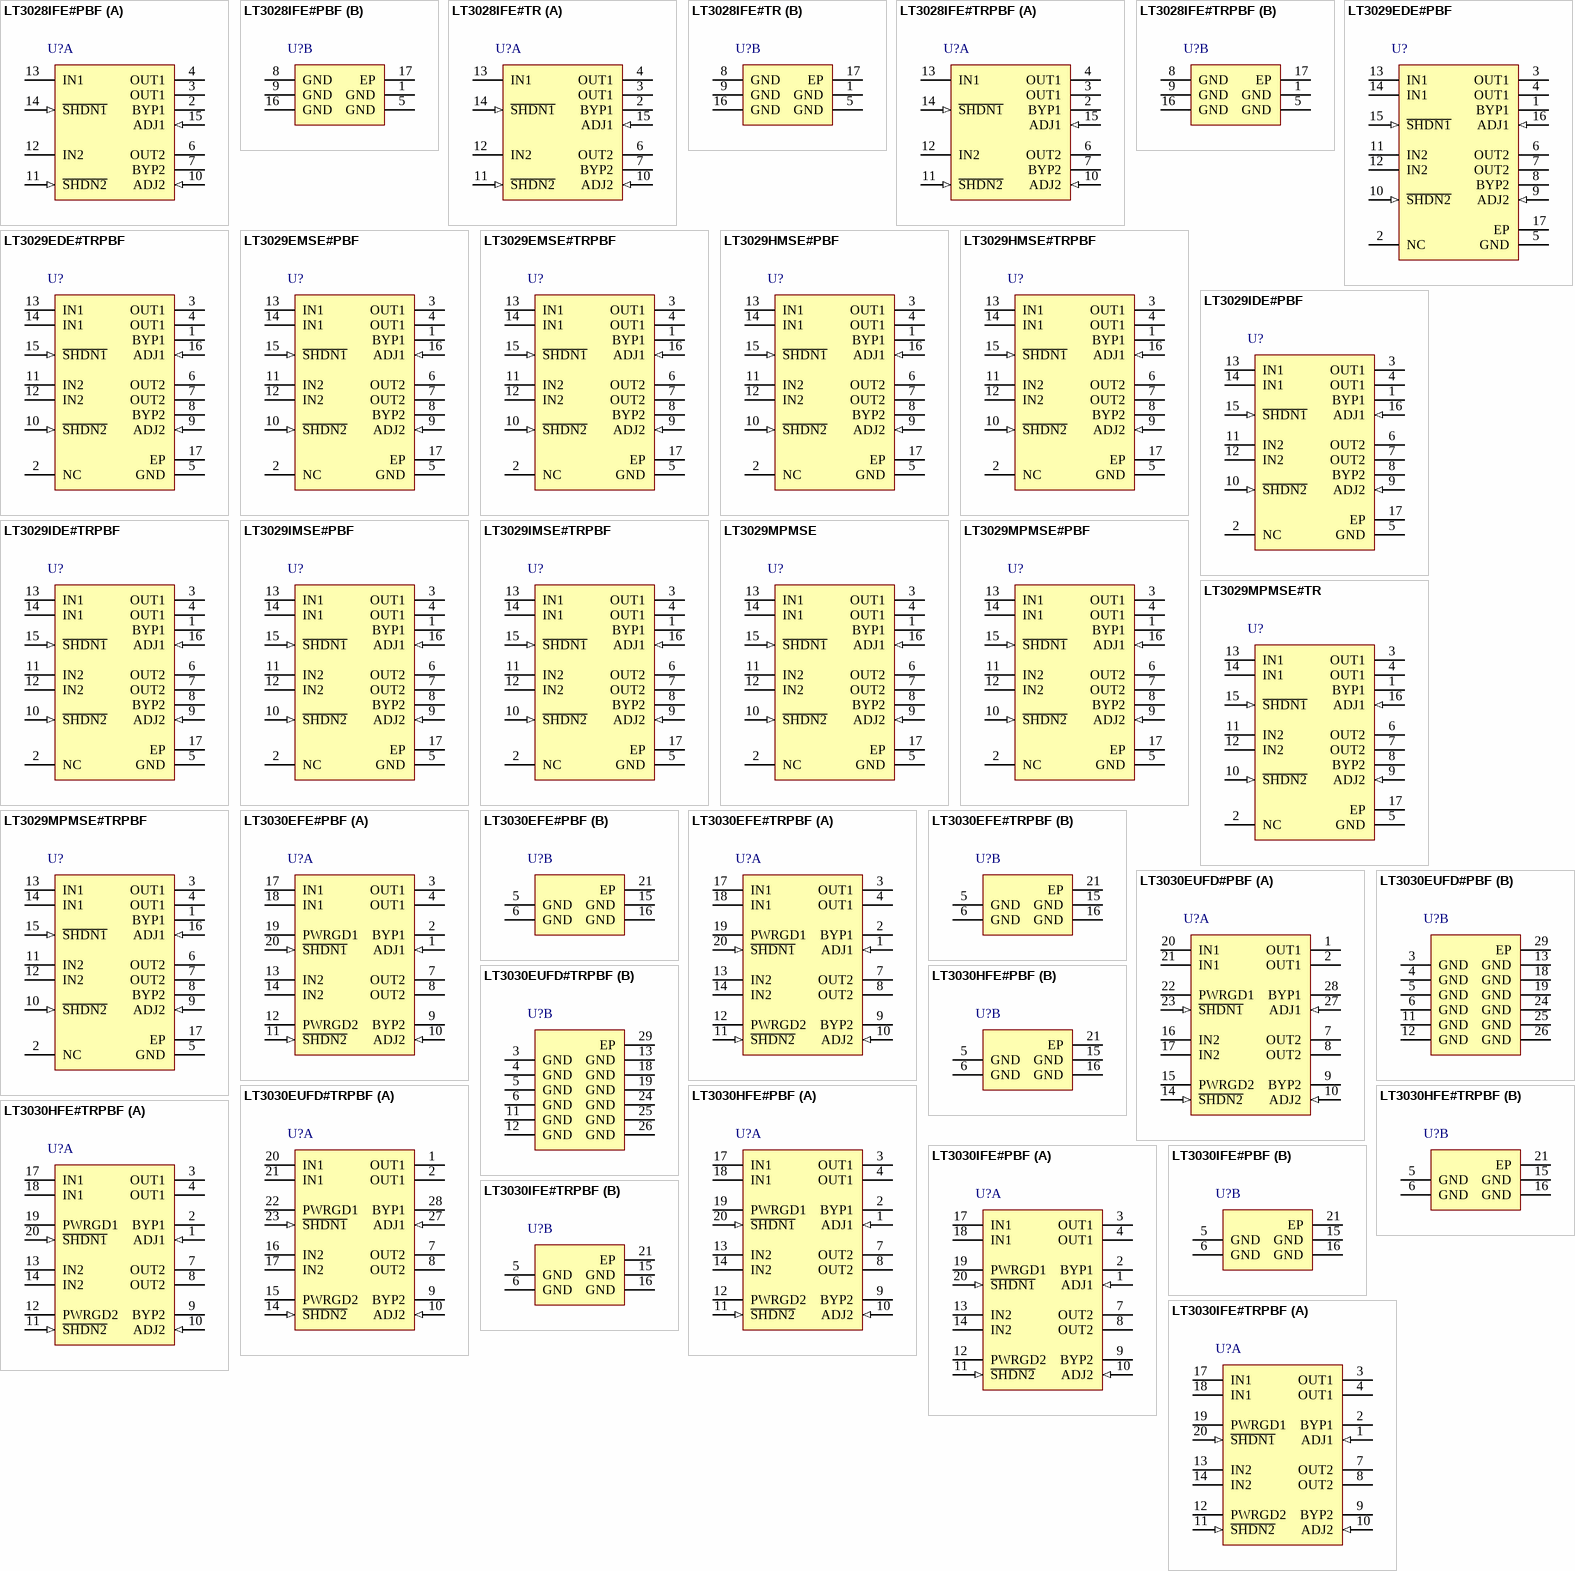
[diagram p57: symbols LT3028IFE#PBF to LT3030IFE#TRPBF]

## LT3028IFE#PBF
designator U?
Dual 100 mA / 500 mA Low Dropout, Low Noise, Micropower Regulator with Independent Inputs, 1.8 to 20 V Vin, Adjustable Vout, 16-pin SOP (FE-16-EPV-BB), -40 to 125 degC, Pb-Free; Manufacturer: Linear Technology; PartNumber: LT3028IFE#PBF; Discrete Pass Element: no; Dropout Voltage(V): 0.32; Iout(mA): 500; Isupply(mA): 0.03; Noise(uV): 20; Number of Outputs: 2; Output Voltage: Adj; PSRR(dB): 65; Shutdown Current(uA): 0.01; Vin Min(V): 1.8; Vout Min(V): 1.22; PackageVersion: Rev. J, 11/2012; PackageReference: FE-16; PackageDescription: 16-Pin Plastic TSSOP, Body 5 x 4.4 mm, Pitch 0.65 mm; Supplier 1: Digi-Key; Supplier Part Number 1: LT3028IFE#PBF-ND; Supplier 2: Newark; Supplier Part Number 2: 57M8054; RoHS: TRUE; Vin Max(V): 20; Vout Max(V): 20; Mounting Technology: Surface Mount; ComponentLink1Description: Manufacturer URL; ComponentLink1URL: http://www.linear.com/; ComponentLink2Description: Datasheet; ComponentLink2URL: http://cds.linear.com/docs/en/datasheet/3028f.pdf; ComponentLink3Description: Package Specification; ComponentLink3URL: http://cds.linear.com/docs/en/packaging/05081663__J_FE16(BB).pdf
footprint LT-FE-16-EPV-BB_N (SOP, 16-Leads, Body 5.1x4.5mm, Pitch 0.65mm, Thermal Pad 3.58x2.94mm, IPC Medium Density)
footprint LT-FE-16-EPV-BB_L (SOP, 16-Leads, Body 5.1x4.5mm, Pitch 0.65mm, Thermal Pad 3.58x2.94mm, IPC High Density)
footprint LT-FE-16-EPV-BB_M (SOP, 16-Leads, Body 5.1x4.5mm, Pitch 0.65mm, Thermal Pad 3.58x2.94mm, IPC Low Density)
part A pins: 2 BYP1 "Bypass. The BYP1/BYP2 pins are used to bypass the reference of the LT3028 regulator to achieve low noise performance from the regulator. The BYP1/BYP2 pins are clamped internally to +/-0.6V (one VBE) from ground. A small (See Datasheet)", 3 OUT1 (power) "Output. The outputs supply power to the loads. A minimum output capacitor of 1uF is required to prevent oscillations on Output 2; Output 1 requires a minimum of 3.3uF. Larger output capacitors will be required for (See Datasheet)", 4 OUT1 (power) "Output. The outputs supply power to the loads. A minimum output capacitor of 1uF is required to prevent oscillations on Output 2; Output 1 requires a minimum of 3.3uF. Larger output capacitors will be required for (See Datasheet)", 6 OUT2 (power) "Output. The outputs supply power to the loads. A minimum output capacitor of 1uF is required to prevent oscillations on Output 2; Output 1 requires a minimum of 3.3uF. Larger output capacitors will be required for (See Datasheet)", 7 BYP2 "Bypass. The BYP1/BYP2 pins are used to bypass the reference of the LT3028 regulator to achieve low noise performance from the regulator. The BYP1/BYP2 pins are clamped internally to +/-0.6V (one VBE) from ground. A small (See Datasheet)", 10 ADJ2 (in) "Adjust Pin. These are the inputs to the error amplifiers. These pins are internally clamped to +/-7V. They have a bias current of 30nA which flows into the pin (see curve of ADJ1/ADJ2 Pin Bias Current vs Temperature in the (See Datasheet)", 11 ~{SHDN2} (in) "Shutdown. The S\H\D\N\1\/S\H\D\N\2\ pins are used to put the corresponding output of the LT3028 regulator into a low power shutdown state. The output will be off when the pin is pulled low. The S\H\D\N\1\/S\H\D\N\2\ pins can (See Datasheet)", 12 IN2 (power) "Inputs. Power is supplied to the device through the IN pins. A bypass capacitor is required on these pins if the device is more than six inches away from the main input filter capacitor. In general, the output impedance of a (See Datasheet)", 13 IN1 (power) "Inputs. Power is supplied to the device through the IN pins. A bypass capacitor is required on these pins if the device is more than six inches away from the main input filter capacitor. In general, the output impedance of a (See Datasheet)", 14 ~{SHDN1} (in) "Shutdown. The S\H\D\N\1\/S\H\D\N\2\ pins are used to put the corresponding output of the LT3028 regulator into a low power shutdown state. The output will be off when the pin is pulled low. The S\H\D\N\1\/S\H\D\N\2\ pins can (See Datasheet)", 15 ADJ1 (in) "Adjust Pin. These are the inputs to the error amplifiers. These pins are internally clamped to +/-7V. They have a bias current of 30nA which flows into the pin (see curve of ADJ1/ADJ2 Pin Bias Current vs Temperature in the (See Datasheet)"
part B pins: 1 GND (power) "Ground.", 5 GND (power) "Ground.", 8 GND (power) "Ground.", 9 GND (power) "Ground.", 16 GND (power) "Ground.", 17 EP (power) "Ground. The Exposed Pad must be soldered to PCB ground for optimum thermal performance."

## LT3028IFE#TR
designator U?
Dual 100 mA / 500 mA Low Dropout, Low Noise, Micropower Regulator with Independent Inputs, 1.8 to 20 V Vin, Adjustable Vout, 16-pin SOP (FE-16-EPV-BB), -40 to 125 degC, Tape and Reel; Manufacturer: Linear Technology; PartNumber: LT3028IFE#TR; Discrete Pass Element: no; Dropout Voltage(V): 0.32; Iout(mA): 500; Isupply(mA): 0.03; Noise(uV): 20; Number of Outputs: 2; Output Voltage: Adj; PSRR(dB): 65; Shutdown Current(uA): 0.01; Vin Min(V): 1.8; Vout Min(V): 1.22; PackageVersion: Rev. J, 11/2012; PackageReference: FE-16; PackageDescription: 16-Pin Plastic TSSOP, Body 5 x 4.4 mm, Pitch 0.65 mm; Packing: Tape and Reel; RoHS: FALSE; Vin Max(V): 20; Vout Max(V): 20; Mounting Technology: Surface Mount; ComponentLink1Description: Manufacturer URL; ComponentLink1URL: http://www.linear.com/; ComponentLink2Description: Datasheet; ComponentLink2URL: http://cds.linear.com/docs/en/datasheet/3028f.pdf; ComponentLink3Description: Package Specification; ComponentLink3URL: http://cds.linear.com/docs/en/packaging/05081663__J_FE16(BB).pdf
footprint LT-FE-16-EPV-BB_N (SOP, 16-Leads, Body 5.1x4.5mm, Pitch 0.65mm, Thermal Pad 3.58x2.94mm, IPC Medium Density)
footprint LT-FE-16-EPV-BB_L (SOP, 16-Leads, Body 5.1x4.5mm, Pitch 0.65mm, Thermal Pad 3.58x2.94mm, IPC High Density)
footprint LT-FE-16-EPV-BB_M (SOP, 16-Leads, Body 5.1x4.5mm, Pitch 0.65mm, Thermal Pad 3.58x2.94mm, IPC Low Density)
part A pins: 2 BYP1 "Bypass. The BYP1/BYP2 pins are used to bypass the reference of the LT3028 regulator to achieve low noise performance from the regulator. The BYP1/BYP2 pins are clamped internally to +/-0.6V (one VBE) from ground. A small (See Datasheet)", 3 OUT1 (power) "Output. The outputs supply power to the loads. A minimum output capacitor of 1uF is required to prevent oscillations on Output 2; Output 1 requires a minimum of 3.3uF. Larger output capacitors will be required for (See Datasheet)", 4 OUT1 (power) "Output. The outputs supply power to the loads. A minimum output capacitor of 1uF is required to prevent oscillations on Output 2; Output 1 requires a minimum of 3.3uF. Larger output capacitors will be required for (See Datasheet)", 6 OUT2 (power) "Output. The outputs supply power to the loads. A minimum output capacitor of 1uF is required to prevent oscillations on Output 2; Output 1 requires a minimum of 3.3uF. Larger output capacitors will be required for (See Datasheet)", 7 BYP2 "Bypass. The BYP1/BYP2 pins are used to bypass the reference of the LT3028 regulator to achieve low noise performance from the regulator. The BYP1/BYP2 pins are clamped internally to +/-0.6V (one VBE) from ground. A small (See Datasheet)", 10 ADJ2 (in) "Adjust Pin. These are the inputs to the error amplifiers. These pins are internally clamped to +/-7V. They have a bias current of 30nA which flows into the pin (see curve of ADJ1/ADJ2 Pin Bias Current vs Temperature in the (See Datasheet)", 11 ~{SHDN2} (in) "Shutdown. The S\H\D\N\1\/S\H\D\N\2\ pins are used to put the corresponding output of the LT3028 regulator into a low power shutdown state. The output will be off when the pin is pulled low. The S\H\D\N\1\/S\H\D\N\2\ pins can (See Datasheet)", 12 IN2 (power) "Inputs. Power is supplied to the device through the IN pins. A bypass capacitor is required on these pins if the device is more than six inches away from the main input filter capacitor. In general, the output impedance of a (See Datasheet)", 13 IN1 (power) "Inputs. Power is supplied to the device through the IN pins. A bypass capacitor is required on these pins if the device is more than six inches away from the main input filter capacitor. In general, the output impedance of a (See Datasheet)", 14 ~{SHDN1} (in) "Shutdown. The S\H\D\N\1\/S\H\D\N\2\ pins are used to put the corresponding output of the LT3028 regulator into a low power shutdown state. The output will be off when the pin is pulled low. The S\H\D\N\1\/S\H\D\N\2\ pins can (See Datasheet)", 15 ADJ1 (in) "Adjust Pin. These are the inputs to the error amplifiers. These pins are internally clamped to +/-7V. They have a bias current of 30nA which flows into the pin (see curve of ADJ1/ADJ2 Pin Bias Current vs Temperature in the (See Datasheet)"
part B pins: 1 GND (power) "Ground.", 5 GND (power) "Ground.", 8 GND (power) "Ground.", 9 GND (power) "Ground.", 16 GND (power) "Ground.", 17 EP (power) "Ground. The Exposed Pad must be soldered to PCB ground for optimum thermal performance."